# EAGLE library part EPIC-CORE_A (library umich)
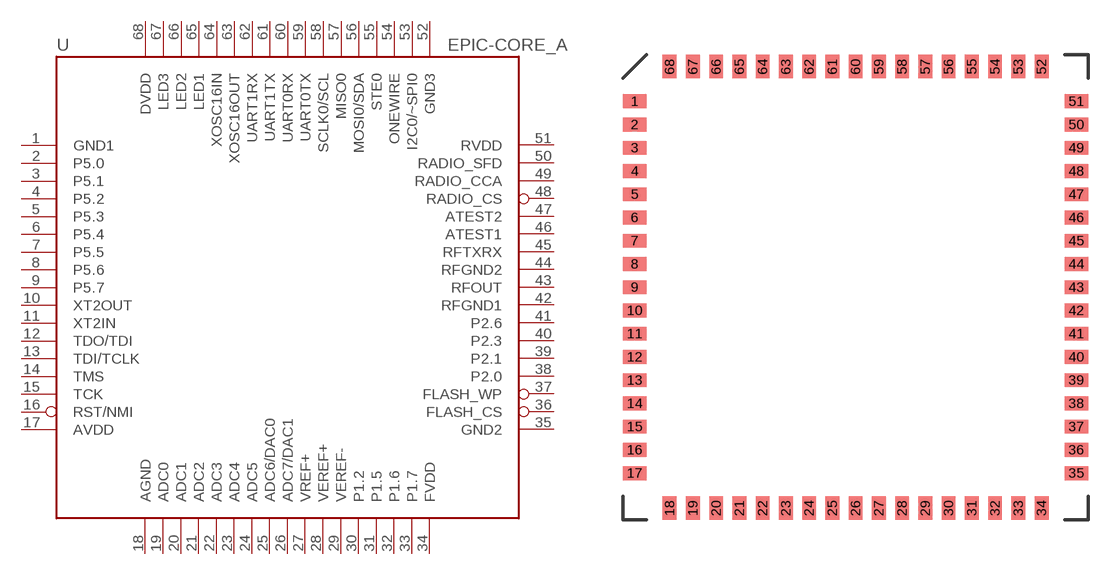
[diagram p3: symbol with the pads of EPIC-LCC68; footprint EPIC-LCC68]

Designator prefix U

## EPIC-CORE_A  [EPIC-LCC68]
1  GND1
2  P5.0
3  P5.1
4  P5.2
5  P5.3
6  P5.4
7  P5.5
8  P5.6
9  P5.7
10  XT2OUT
11  XT2IN
12  TDO/TDI
13  TDI/TCLK
14  TMS
15  TCK
16  RST/NMI
17  AVDD
18  AGND
19  ADC0
20  ADC1
21  ADC2
22  ADC3
23  ADC4
24  ADC5
25  ADC6/DAC0
26  ADC7/DAC1
27  VREF+
28  VEREF+
29  VEREF-
30  P1.2
31  P1.5
32  P1.6
33  P1.7
34  FVDD
35  GND2
36  FLASH_CS
37  FLASH_WP
38  P2.0
39  P2.1
40  P2.3
41  P2.6
42  RFGND1
43  RFOUT
44  RFGND2
45  RFTXRX
46  ATEST1
47  ATEST2
48  RADIO_CS
49  RADIO_CCA
50  RADIO_SFD
51  RVDD
52  GND3
53  I2C0/~SPI0
54  ONEWIRE
55  STE0
56  MOSI0/SDA
57  MISO0
58  SCLK0/SCL
59  UART0TX
60  UART0RX
61  UART1TX
62  UART1RX
63  XOSC16OUT
64  XOSC16IN
65  LED1
66  LED2
67  LED3
68  DVDD

## Footprint EPIC-LCC68 (pad centres in mm)
smd 1.27 x 0.762: 1 -12.065,10.16; 2 -12.065,8.89; 3 -12.065,7.62; 4 -12.065,6.35; 5 -12.065,5.08; 6 -12.065,3.81; 7 -12.065,2.54; 8 -12.065,1.27; 9 -12.065,0; 10 -12.065,-1.27; 11 -12.065,-2.54; 12 -12.065,-3.81; 13 -12.065,-5.08; 14 -12.065,-6.35; 15 -12.065,-7.62; 16 -12.065,-8.89; 17 -12.065,-10.16; 35 12.065,-10.16; 36 12.065,-8.89; 37 12.065,-7.62; 38 12.065,-6.35; 39 12.065,-5.08; 40 12.065,-3.81; 41 12.065,-2.54; 42 12.065,-1.27; 43 12.065,0; 44 12.065,1.27; 45 12.065,2.54; 46 12.065,3.81; 47 12.065,5.08; 48 12.065,6.35; 49 12.065,7.62; 50 12.065,8.89; 51 12.065,10.16
smd 0.762 x 1.27: 18 -10.16,-12.065; 19 -8.89,-12.065; 20 -7.62,-12.065; 21 -6.35,-12.065; 22 -5.08,-12.065; 23 -3.81,-12.065; 24 -2.54,-12.065; 25 -1.27,-12.065; 26 0,-12.065; 27 1.27,-12.065; 28 2.54,-12.065; 29 3.81,-12.065; 30 5.08,-12.065; 31 6.35,-12.065; 32 7.62,-12.065; 33 8.89,-12.065; 34 10.16,-12.065; 52 10.16,12.065; 53 8.89,12.065; 54 7.62,12.065; 55 6.35,12.065; 56 5.08,12.065; 57 3.81,12.065; 58 2.54,12.065; 59 1.27,12.065; 60 0,12.065; 61 -1.27,12.065; 62 -2.54,12.065; 63 -3.81,12.065; 64 -5.08,12.065; 65 -6.35,12.065; 66 -7.62,12.065; 67 -8.89,12.065; 68 -10.16,12.065